# EAGLE library part KLBRSS3 (library con-lumberg)
Jack connectors according to JISC 6560, 6.35 mm Klinkeneinbaukupplung nach JISC 6560, 6,35 mm, 3-polig/stereo, abgewinkelte Ausführung, mit 2 Umschaltern, Leiterplatten Rückseitenmontage Source: http://www.lumberg.de/Produkte/PDFs/KLBRSS3.pdf
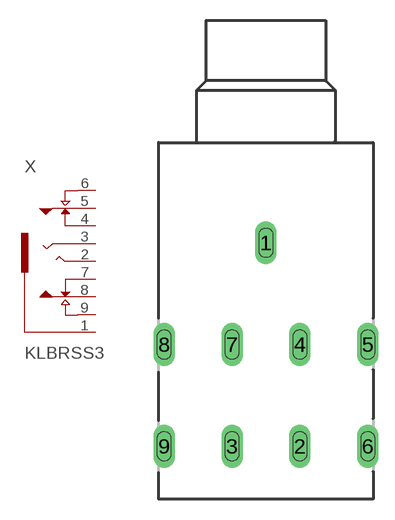
[diagram p30: symbol with the pads of KLBRSS3; footprint KLBRSS3]

Designator prefix X

## KLBRSS3  [KLBRSS3]
1  1  pas
2  2  pas
3  3  pas
4  4  pas
5  5  pas
6  6  pas
7  7  pas
8  8  pas
9  9  pas

## Footprint KLBRSS3 (pad centres in mm)
Jack connectors according to JISC 6560, 6.35 mm Klinkeneinbaukupplung nach JISC 6560, 6,35 mm, 3-polig/stereo, abgewinkelte Ausführung, mit 2 Umschaltern, Leiterplatten Rückseitenmontage Source: http://www.lumberg.de/Produkte/PDFs/KLBRSS3.pdf
drill 1 pad 1.6 long: 1 0,-7.5; 2 2.5,-22.5; 3 -2.5,-22.5; 4 2.5,-15; 5 7.5,-15; 6 7.5,-22.5; 7 -2.5,-15; 8 -7.5,-15; 9 -7.5,-22.5